# EAGLE library part 74HC21 (library Bauteile)
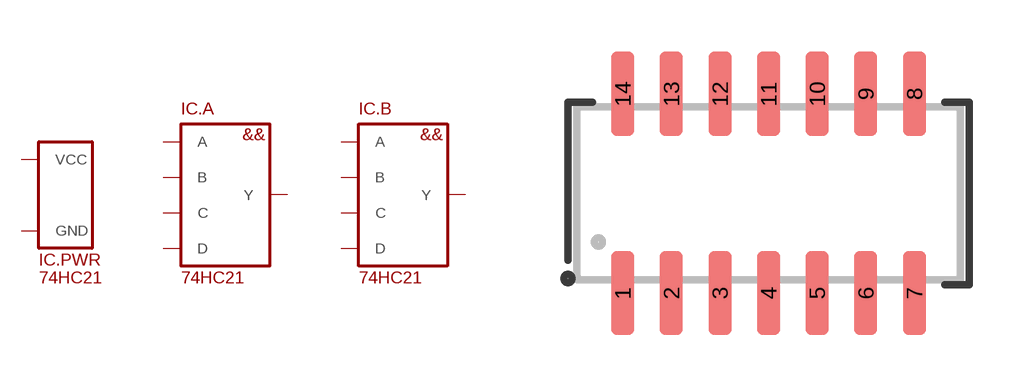
[diagram p27: symbol with the pads of SOP14; footprint SOP14]

Designator prefix IC; gates .PWR=SUPPLY_VCC/GND .A=AND_4 .B=AND_4

## 74HC21  [SOP14]
1  .A:A
2  .A:B
4  .A:C
5  .A:D
6  .A:Y
7  .PWR:GND
8  .B:Y
9  .B:A
10  .B:B
12  .B:C
13  .B:D
14  .PWR:VCC

## Footprint SOP14 (pad centres in mm)
smd 0.6 x 2.2: 1 -3.81,-2.6; 2 -2.54,-2.6; 3 -1.27,-2.6; 4 0,-2.6; 5 1.27,-2.6; 6 2.54,-2.6; 7 3.81,-2.6; 8 3.81,2.6; 9 2.54,2.6; 10 1.27,2.6; 11 0,2.6; 12 -1.27,2.6; 13 -2.54,2.6; 14 -3.81,2.6